# Altium integrated library TI Data Converters Analog to Digital Converter.IntLib: 2198 symbols (part 56 of 164)
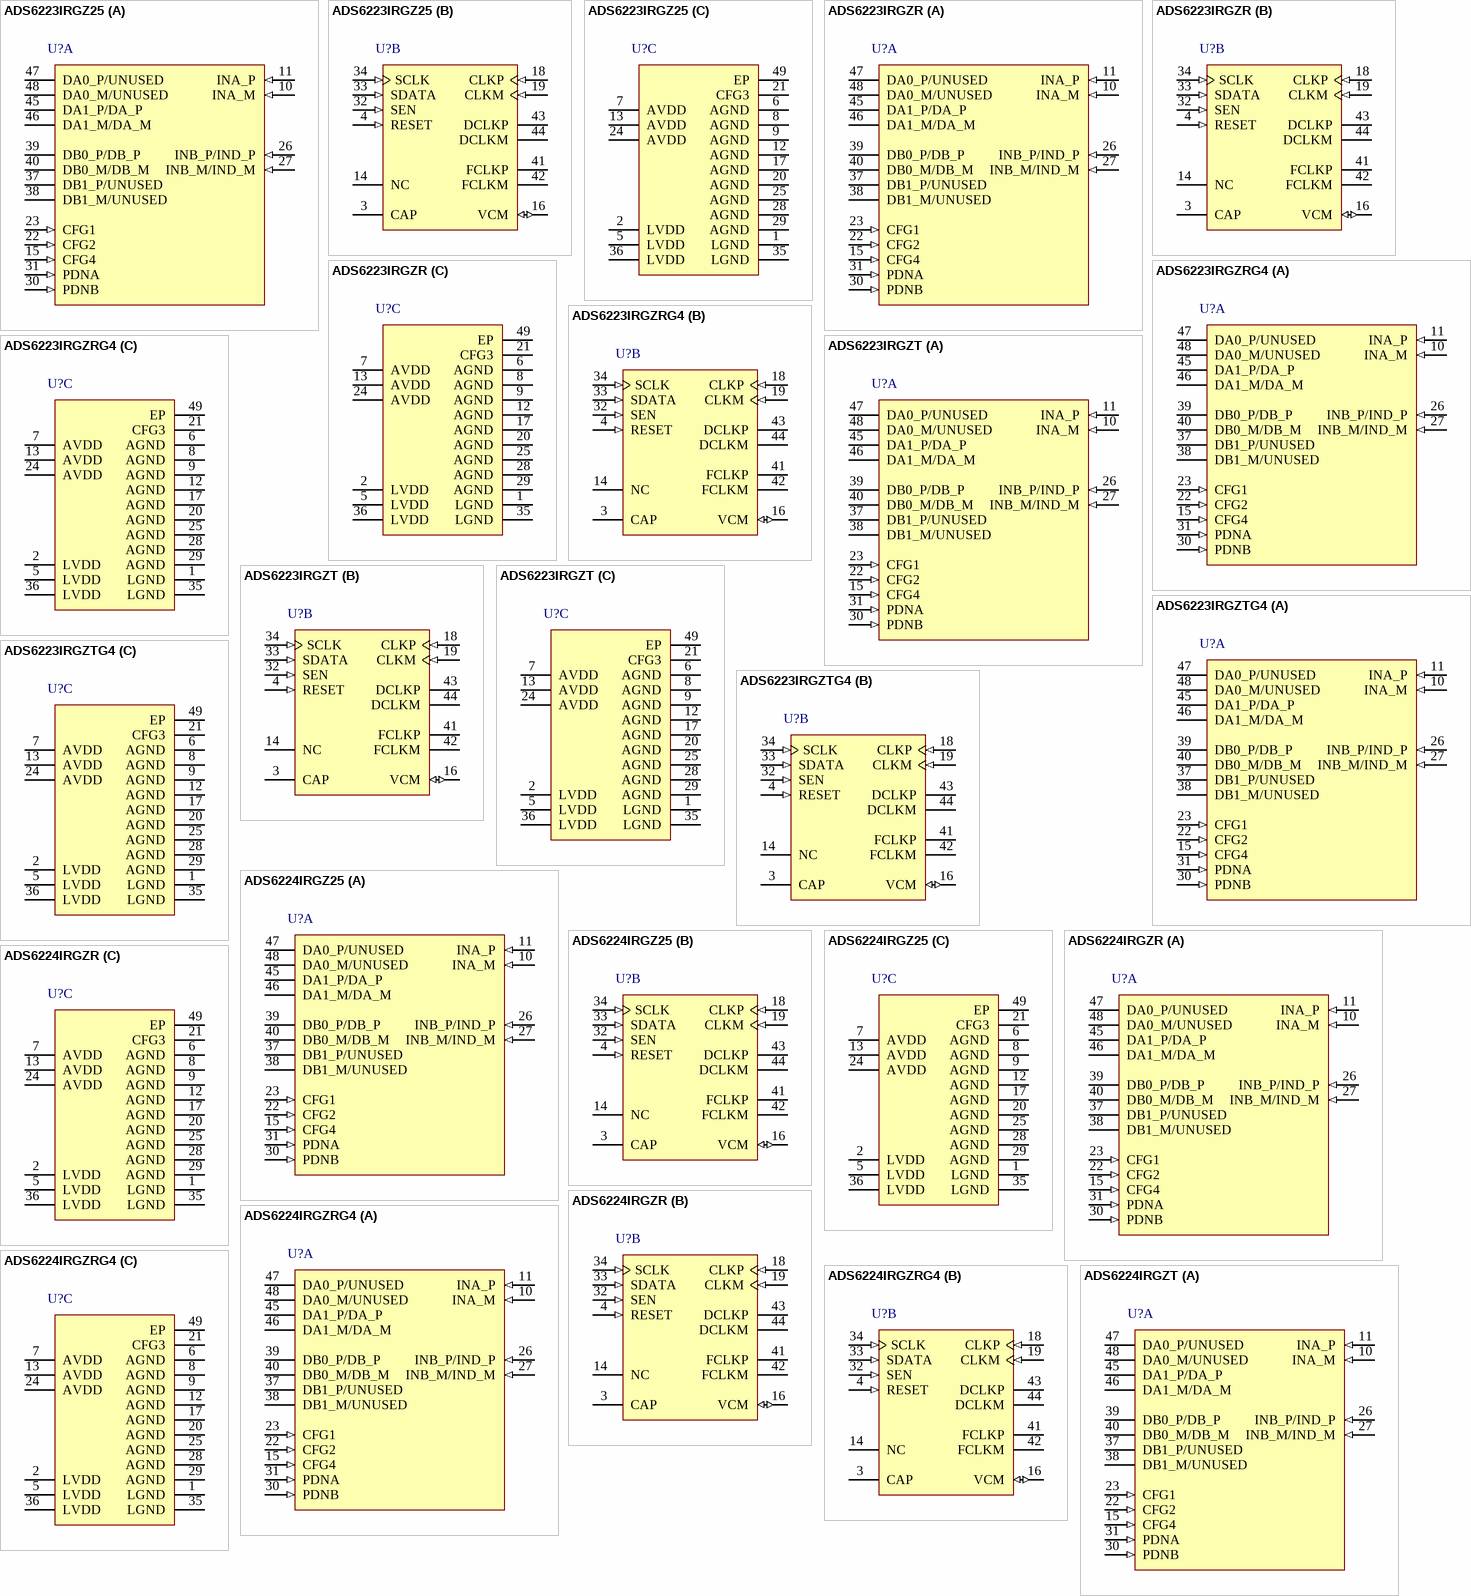
[diagram p181: symbols ADS6223IRGZ25 to ADS6224IRGZT]

## ADS6223IRGZTG4
designator U?
Dual 12-Bit 80 MSPS ADC with Serialized LVDS Output, -40 to 85 degC, 48-pin QFN (RGZ48), Green (RoHS & no Sb/Br); Manufacturer: Texas Instruments; PartNumber: ADS6223IRGZTG4; # Input Channels: 2; Analog Voltage AV/DD(Max)(V): 3.6; Analog Voltage AV/DD(Min)(V): 3; Architecture: Pipeline; ENOB(Bits): 11.5; Interface: Parallel LVDS, Serial SPI Interface; Resolution(Bits): 12; Sample Rate (max)(SPS): 80M; SFDR(dB): 87; SINAD(dB): 70.9; SNR(dB): 71.1; SubFamily: High Speed ADC (>10MSPS); DatasheetVersion: SLAS543A; PackageVersion: 4204101/F, 06/2011; PackageReference: RGZ48-5150X5150TP; PackageDescription: 48-Pin Plastic Flat Pack, Body 7 x 7 mm, Pitch 0.5 mm; Supplier 1: Digi-Key; Supplier Part Number 1: ADS5204IPFBRG4-ND; Digital Supply(Max)(V): 3.6; Digital Supply(Min)(V): 3; Eco-Plan: Green (RoHS & no Sb/Br); INL(Max)(+/-LSB): 2; Mounting Technology: Surface Mount; Code_JEDEC: MO-220; ComponentLink1Description: Manufacturer URL; ComponentLink1URL: http://www.ti.com/; ComponentLink2Description: Datasheet; ComponentLink2URL: http://www.ti.com/general/docs/lit/getliterature.tsp?genericPartNumber=ADS6223&fileType=pdf; ComponentLink3Description: Package Specification; ComponentLink3URL: http://www.ti.com/lit/ml/mpqf123e/mpqf123e.pdf
footprint TI-RGZ48-5150X5150TP_V (QFN, 48-Leads, Body 7x7mm, Pitch 0.5mm, Thermal Pad 5.15x5.15mm, TI Recommended)
part A pins: 10 INA_M (in) "Differential input signal pair, channel A. If unused, the pins should be tied to VCM. Do not float.", 11 INA_P (in) "Differential input signal pair, channel A. If unused, the pins should be tied to VCM. Do not float.", 15 CFG4 (in) "Parallel input pin. It controls data format and MSB or LSB first modes. See Table 12 for description", 22 CFG2 (in) "Parallel input pin. It controls 12x or 14x serialization and SDR bit clock capture edge. See Table 10 for description. For 12x serialization with DDR bit clock, tie to ground or AVDD.", 23 CFG1 (in) "Parallel input pin. It controls 1-wire or 2-wire interface and DDR or SDR bit clock selection. See Table 9 for description. Tie to AVDD for 2-wire interface with DDR bit clock.", 26 INB_P/IND_P (in), 27 INB_M/IND_M (in), 30 PDNB (in) "Channel B ADC power down control pin.", 31 PDNA (in) "Channel A ADC power down control pin.", 37 DB1_P/UNUSED (hiz), 38 DB1_M/UNUSED (hiz), 39 DB0_P/DB_P (hiz), 40 DB0_M/DB_M (hiz), 45 DA1_P/DA_P (hiz), 46 DA1_M/DA_M (hiz), 47 DA0_P/UNUSED (hiz), 48 DA0_M/UNUSED (hiz)
part B pins: 3 CAP "Connect 2-nF capacitor from pin to ground", 4 RESET (in) "Serial interface reset input. When using the serial interface mode, the user MUST initialize internal registers through hardware RESET by applying a high-going pulse on this pin or by using software reset option.Refer to the (See Datasheet)", 14 NC "Do Not Connect", 16 VCM (io) "Internal reference mode - common-mode voltage output External reference mode - reference input. The voltage forced on this pin sets the internal reference.", 18 CLKP (in) "Differential input clock pair", 19 CLKM (in) "Differential input clock pair", 32 SEN (in) "This pin functions as serial interface enable input when RESET is low. When RESET is high, it controls coarse gain and internal/external reference modes. See Table 6 for description. This pin has an internal pull-up resistor.", 33 SDATA (in) "This pin functions as serial interface data input when RESET is low. When RESET is high, it controls DESKEW, SYNC and global POWER DOWN modes (along with SCLK). See Table 5 for description. This pin has an internal pull-down (See Datasheet)", 34 SCLK (in) "This pin functions as serial interface clock input when RESET is low. When RESET is high, it controls DESKEW, SYNC and global POWER DOWN modes (along with SDATA). See Table 5 for description. This pin has an internal (See Datasheet)", 41 FCLKP (hiz) "Differential frame clock output pair", 42 FCLKM (hiz) "Differential frame clock output pair", 43 DCLKP (hiz) "Differential bit clock output pair", 44 DCLKM (hiz) "Differential bit clock output pair"
part C pins: 1 LGND (power) "Digital ground", 2 LVDD (power) "Digital power supply", 5 LVDD (power) "Digital power supply", 6 AGND (power) "Analog ground", 7 AVDD (power) "Analog power supply", 8 AGND (power) "Analog ground", 9 AGND (power) "Analog ground", 12 AGND (power) "Analog ground", 13 AVDD (power) "Analog power supply", 17 AGND (power) "Analog ground", 20 AGND (power) "Analog ground", 21 CFG3 (power) "RESERVED pin - TIE to ground.", 24 AVDD (power) "Analog power supply", 25 AGND (power) "Analog ground", 28 AGND (power) "Analog ground", 29 AGND (power) "Analog ground", 35 LGND (power) "Digital ground", 36 LVDD (power) "Digital power supply", 49 EP (power) "Connect to ground plane using multiple vias. Refer to Board Design Considerations in application section"

## ADS6224IRGZ25
designator U?
Dual 12-Bit 105 MSPS ADC with Serialized LVDS Output, -40 to 85 degC, 48-pin QFN (RGZ48), Green (RoHS & no Sb/Br); Manufacturer: Texas Instruments; PartNumber: ADS6224IRGZ25; # Input Channels: 2; Analog Voltage AV/DD(Max)(V): 3.6; Analog Voltage AV/DD(Min)(V): 3; Architecture: Pipeline; ENOB(Bits): 11.4; INL(Max)(+/-LSB): 2.2; Interface: Parallel LVDS, Serial SPI Interface; Resolution(Bits): 12; Sample Rate (max)(SPS): 105M; SFDR(dB): 80; SINAD(dB): 69.8; SNR(dB): 70.8; SubFamily: High Speed ADC (>10MSPS); DatasheetVersion: SLAS543A; PackageVersion: 4204101/F, 06/2011; PackageReference: RGZ48-5150X5150TP; PackageDescription: 48-Pin Plastic Flat Pack, Body 7 x 7 mm, Pitch 0.5 mm; Supplier 1: Digi-Key; Supplier Part Number 1: 296-13446-ND; Digital Supply(Max)(V): 3.6; Digital Supply(Min)(V): 3; Eco-Plan: Green (RoHS & no Sb/Br); Mounting Technology: Surface Mount; Code_JEDEC: MO-220; ComponentLink1Description: Manufacturer URL; ComponentLink1URL: http://www.ti.com/; ComponentLink2Description: Datasheet; ComponentLink2URL: http://www.ti.com/general/docs/lit/getliterature.tsp?genericPartNumber=ADS6224&fileType=pdf; ComponentLink3Description: Package Specification; ComponentLink3URL: http://www.ti.com/lit/ml/mpqf123e/mpqf123e.pdf
footprint TI-RGZ48-5150X5150TP_V (QFN, 48-Leads, Body 7x7mm, Pitch 0.5mm, Thermal Pad 5.15x5.15mm, TI Recommended)
part A pins: 10 INA_M (in) "Differential input signal pair, channel A. If unused, the pins should be tied to VCM. Do not float.", 11 INA_P (in) "Differential input signal pair, channel A. If unused, the pins should be tied to VCM. Do not float.", 15 CFG4 (in) "Parallel input pin. It controls data format and MSB or LSB first modes. See Table 12 for description", 22 CFG2 (in) "Parallel input pin. It controls 12x or 14x serialization and SDR bit clock capture edge. See Table 10 for description. For 12x serialization with DDR bit clock, tie to ground or AVDD.", 23 CFG1 (in) "Parallel input pin. It controls 1-wire or 2-wire interface and DDR or SDR bit clock selection. See Table 9 for description. Tie to AVDD for 2-wire interface with DDR bit clock.", 26 INB_P/IND_P (in), 27 INB_M/IND_M (in), 30 PDNB (in) "Channel B ADC power down control pin.", 31 PDNA (in) "Channel A ADC power down control pin.", 37 DB1_P/UNUSED (hiz), 38 DB1_M/UNUSED (hiz), 39 DB0_P/DB_P (hiz), 40 DB0_M/DB_M (hiz), 45 DA1_P/DA_P (hiz), 46 DA1_M/DA_M (hiz), 47 DA0_P/UNUSED (hiz), 48 DA0_M/UNUSED (hiz)
part B pins: 3 CAP "Connect 2-nF capacitor from pin to ground", 4 RESET (in) "Serial interface reset input. When using the serial interface mode, the user MUST initialize internal registers through hardware RESET by applying a high-going pulse on this pin or by using software reset option.Refer to the (See Datasheet)", 14 NC "Do Not Connect", 16 VCM (io) "Internal reference mode - common-mode voltage output External reference mode - reference input. The voltage forced on this pin sets the internal reference.", 18 CLKP (in) "Differential input clock pair", 19 CLKM (in) "Differential input clock pair", 32 SEN (in) "This pin functions as serial interface enable input when RESET is low. When RESET is high, it controls coarse gain and internal/external reference modes. See Table 6 for description. This pin has an internal pull-up resistor.", 33 SDATA (in) "This pin functions as serial interface data input when RESET is low. When RESET is high, it controls DESKEW, SYNC and global POWER DOWN modes (along with SCLK). See Table 5 for description. This pin has an internal pull-down (See Datasheet)", 34 SCLK (in) "This pin functions as serial interface clock input when RESET is low. When RESET is high, it controls DESKEW, SYNC and global POWER DOWN modes (along with SDATA). See Table 5 for description. This pin has an internal (See Datasheet)", 41 FCLKP (hiz) "Differential frame clock output pair", 42 FCLKM (hiz) "Differential frame clock output pair", 43 DCLKP (hiz) "Differential bit clock output pair", 44 DCLKM (hiz) "Differential bit clock output pair"
part C pins: 1 LGND (power) "Digital ground", 2 LVDD (power) "Digital power supply", 5 LVDD (power) "Digital power supply", 6 AGND (power) "Analog ground", 7 AVDD (power) "Analog power supply", 8 AGND (power) "Analog ground", 9 AGND (power) "Analog ground", 12 AGND (power) "Analog ground", 13 AVDD (power) "Analog power supply", 17 AGND (power) "Analog ground", 20 AGND (power) "Analog ground", 21 CFG3 (power) "RESERVED pin - TIE to ground.", 24 AVDD (power) "Analog power supply", 25 AGND (power) "Analog ground", 28 AGND (power) "Analog ground", 29 AGND (power) "Analog ground", 35 LGND (power) "Digital ground", 36 LVDD (power) "Digital power supply", 49 EP (power) "Connect to ground plane using multiple vias. Refer to Board Design Considerations in application section"

## ADS6224IRGZR
designator U?
Dual 12-Bit 105 MSPS ADC with Serialized LVDS Output, -40 to 85 degC, 48-pin QFN (RGZ48), Green (RoHS & no Sb/Br); Manufacturer: Texas Instruments; PartNumber: ADS6224IRGZR; # Input Channels: 2; Analog Voltage AV/DD(Max)(V): 3.6; Analog Voltage AV/DD(Min)(V): 3; Architecture: Pipeline; ENOB(Bits): 11.4; INL(Max)(+/-LSB): 2.2; Interface: Parallel LVDS, Serial SPI Interface; Resolution(Bits): 12; Sample Rate (max)(SPS): 105M; SFDR(dB): 80; SINAD(dB): 69.8; SNR(dB): 70.8; SubFamily: High Speed ADC (>10MSPS); DatasheetVersion: SLAS543A; PackageVersion: 4204101/F, 06/2011; PackageReference: RGZ48-5150X5150TP; PackageDescription: 48-Pin Plastic Flat Pack, Body 7 x 7 mm, Pitch 0.5 mm; Supplier 1: Digi-Key; Supplier Part Number 1: ADS5203IPFBG4-ND; Digital Supply(Max)(V): 3.6; Digital Supply(Min)(V): 3; Eco-Plan: Green (RoHS & no Sb/Br); Mounting Technology: Surface Mount; Code_JEDEC: MO-220; ComponentLink1Description: Manufacturer URL; ComponentLink1URL: http://www.ti.com/; ComponentLink2Description: Datasheet; ComponentLink2URL: http://www.ti.com/general/docs/lit/getliterature.tsp?genericPartNumber=ADS6224&fileType=pdf; ComponentLink3Description: Package Specification; ComponentLink3URL: http://www.ti.com/lit/ml/mpqf123e/mpqf123e.pdf
footprint TI-RGZ48-5150X5150TP_V (QFN, 48-Leads, Body 7x7mm, Pitch 0.5mm, Thermal Pad 5.15x5.15mm, TI Recommended)
part A pins: 10 INA_M (in) "Differential input signal pair, channel A. If unused, the pins should be tied to VCM. Do not float.", 11 INA_P (in) "Differential input signal pair, channel A. If unused, the pins should be tied to VCM. Do not float.", 15 CFG4 (in) "Parallel input pin. It controls data format and MSB or LSB first modes. See Table 12 for description", 22 CFG2 (in) "Parallel input pin. It controls 12x or 14x serialization and SDR bit clock capture edge. See Table 10 for description. For 12x serialization with DDR bit clock, tie to ground or AVDD.", 23 CFG1 (in) "Parallel input pin. It controls 1-wire or 2-wire interface and DDR or SDR bit clock selection. See Table 9 for description. Tie to AVDD for 2-wire interface with DDR bit clock.", 26 INB_P/IND_P (in), 27 INB_M/IND_M (in), 30 PDNB (in) "Channel B ADC power down control pin.", 31 PDNA (in) "Channel A ADC power down control pin.", 37 DB1_P/UNUSED (hiz), 38 DB1_M/UNUSED (hiz), 39 DB0_P/DB_P (hiz), 40 DB0_M/DB_M (hiz), 45 DA1_P/DA_P (hiz), 46 DA1_M/DA_M (hiz), 47 DA0_P/UNUSED (hiz), 48 DA0_M/UNUSED (hiz)
part B pins: 3 CAP "Connect 2-nF capacitor from pin to ground", 4 RESET (in) "Serial interface reset input. When using the serial interface mode, the user MUST initialize internal registers through hardware RESET by applying a high-going pulse on this pin or by using software reset option.Refer to the (See Datasheet)", 14 NC "Do Not Connect", 16 VCM (io) "Internal reference mode - common-mode voltage output External reference mode - reference input. The voltage forced on this pin sets the internal reference.", 18 CLKP (in) "Differential input clock pair", 19 CLKM (in) "Differential input clock pair", 32 SEN (in) "This pin functions as serial interface enable input when RESET is low. When RESET is high, it controls coarse gain and internal/external reference modes. See Table 6 for description. This pin has an internal pull-up resistor.", 33 SDATA (in) "This pin functions as serial interface data input when RESET is low. When RESET is high, it controls DESKEW, SYNC and global POWER DOWN modes (along with SCLK). See Table 5 for description. This pin has an internal pull-down (See Datasheet)", 34 SCLK (in) "This pin functions as serial interface clock input when RESET is low. When RESET is high, it controls DESKEW, SYNC and global POWER DOWN modes (along with SDATA). See Table 5 for description. This pin has an internal (See Datasheet)", 41 FCLKP (hiz) "Differential frame clock output pair", 42 FCLKM (hiz) "Differential frame clock output pair", 43 DCLKP (hiz) "Differential bit clock output pair", 44 DCLKM (hiz) "Differential bit clock output pair"
part C pins: 1 LGND (power) "Digital ground", 2 LVDD (power) "Digital power supply", 5 LVDD (power) "Digital power supply", 6 AGND (power) "Analog ground", 7 AVDD (power) "Analog power supply", 8 AGND (power) "Analog ground", 9 AGND (power) "Analog ground", 12 AGND (power) "Analog ground", 13 AVDD (power) "Analog power supply", 17 AGND (power) "Analog ground", 20 AGND (power) "Analog ground", 21 CFG3 (power) "RESERVED pin - TIE to ground.", 24 AVDD (power) "Analog power supply", 25 AGND (power) "Analog ground", 28 AGND (power) "Analog ground", 29 AGND (power) "Analog ground", 35 LGND (power) "Digital ground", 36 LVDD (power) "Digital power supply", 49 EP (power) "Connect to ground plane using multiple vias. Refer to Board Design Considerations in application section"

## ADS6224IRGZRG4
designator U?
Dual 12-Bit 105 MSPS ADC with Serialized LVDS Output, -40 to 85 degC, 48-pin QFN (RGZ48), Green (RoHS & no Sb/Br); Manufacturer: Texas Instruments; PartNumber: ADS6224IRGZRG4; # Input Channels: 2; Analog Voltage AV/DD(Max)(V): 3.6; Analog Voltage AV/DD(Min)(V): 3; Architecture: Pipeline; ENOB(Bits): 11.4; INL(Max)(+/-LSB): 2.2; Interface: Parallel LVDS, Serial SPI Interface; Resolution(Bits): 12; Sample Rate (max)(SPS): 105M; SFDR(dB): 80; SINAD(dB): 69.8; SNR(dB): 70.8; SubFamily: High Speed ADC (>10MSPS); DatasheetVersion: SLAS543A; PackageVersion: 4204101/F, 06/2011; PackageReference: RGZ48-5150X5150TP; PackageDescription: 48-Pin Plastic Flat Pack, Body 7 x 7 mm, Pitch 0.5 mm; Supplier 1: Digi-Key; Supplier Part Number 1: ADS5203IPFBR-ND; Digital Supply(Max)(V): 3.6; Digital Supply(Min)(V): 3; Eco-Plan: Green (RoHS & no Sb/Br); Mounting Technology: Surface Mount; Code_JEDEC: MO-220; ComponentLink1Description: Manufacturer URL; ComponentLink1URL: http://www.ti.com/; ComponentLink2Description: Datasheet; ComponentLink2URL: http://www.ti.com/general/docs/lit/getliterature.tsp?genericPartNumber=ADS6224&fileType=pdf; ComponentLink3Description: Package Specification; ComponentLink3URL: http://www.ti.com/lit/ml/mpqf123e/mpqf123e.pdf
footprint TI-RGZ48-5150X5150TP_V (QFN, 48-Leads, Body 7x7mm, Pitch 0.5mm, Thermal Pad 5.15x5.15mm, TI Recommended)
part A pins: 10 INA_M (in) "Differential input signal pair, channel A. If unused, the pins should be tied to VCM. Do not float.", 11 INA_P (in) "Differential input signal pair, channel A. If unused, the pins should be tied to VCM. Do not float.", 15 CFG4 (in) "Parallel input pin. It controls data format and MSB or LSB first modes. See Table 12 for description", 22 CFG2 (in) "Parallel input pin. It controls 12x or 14x serialization and SDR bit clock capture edge. See Table 10 for description. For 12x serialization with DDR bit clock, tie to ground or AVDD.", 23 CFG1 (in) "Parallel input pin. It controls 1-wire or 2-wire interface and DDR or SDR bit clock selection. See Table 9 for description. Tie to AVDD for 2-wire interface with DDR bit clock.", 26 INB_P/IND_P (in), 27 INB_M/IND_M (in), 30 PDNB (in) "Channel B ADC power down control pin.", 31 PDNA (in) "Channel A ADC power down control pin.", 37 DB1_P/UNUSED (hiz), 38 DB1_M/UNUSED (hiz), 39 DB0_P/DB_P (hiz), 40 DB0_M/DB_M (hiz), 45 DA1_P/DA_P (hiz), 46 DA1_M/DA_M (hiz), 47 DA0_P/UNUSED (hiz), 48 DA0_M/UNUSED (hiz)
part B pins: 3 CAP "Connect 2-nF capacitor from pin to ground", 4 RESET (in) "Serial interface reset input. When using the serial interface mode, the user MUST initialize internal registers through hardware RESET by applying a high-going pulse on this pin or by using software reset option.Refer to the (See Datasheet)", 14 NC "Do Not Connect", 16 VCM (io) "Internal reference mode - common-mode voltage output External reference mode - reference input. The voltage forced on this pin sets the internal reference.", 18 CLKP (in) "Differential input clock pair", 19 CLKM (in) "Differential input clock pair", 32 SEN (in) "This pin functions as serial interface enable input when RESET is low. When RESET is high, it controls coarse gain and internal/external reference modes. See Table 6 for description. This pin has an internal pull-up resistor.", 33 SDATA (in) "This pin functions as serial interface data input when RESET is low. When RESET is high, it controls DESKEW, SYNC and global POWER DOWN modes (along with SCLK). See Table 5 for description. This pin has an internal pull-down (See Datasheet)", 34 SCLK (in) "This pin functions as serial interface clock input when RESET is low. When RESET is high, it controls DESKEW, SYNC and global POWER DOWN modes (along with SDATA). See Table 5 for description. This pin has an internal (See Datasheet)", 41 FCLKP (hiz) "Differential frame clock output pair", 42 FCLKM (hiz) "Differential frame clock output pair", 43 DCLKP (hiz) "Differential bit clock output pair", 44 DCLKM (hiz) "Differential bit clock output pair"
part C pins: 1 LGND (power) "Digital ground", 2 LVDD (power) "Digital power supply", 5 LVDD (power) "Digital power supply", 6 AGND (power) "Analog ground", 7 AVDD (power) "Analog power supply", 8 AGND (power) "Analog ground", 9 AGND (power) "Analog ground", 12 AGND (power) "Analog ground", 13 AVDD (power) "Analog power supply", 17 AGND (power) "Analog ground", 20 AGND (power) "Analog ground", 21 CFG3 (power) "RESERVED pin - TIE to ground.", 24 AVDD (power) "Analog power supply", 25 AGND (power) "Analog ground", 28 AGND (power) "Analog ground", 29 AGND (power) "Analog ground", 35 LGND (power) "Digital ground", 36 LVDD (power) "Digital power supply", 49 EP (power) "Connect to ground plane using multiple vias. Refer to Board Design Considerations in application section"

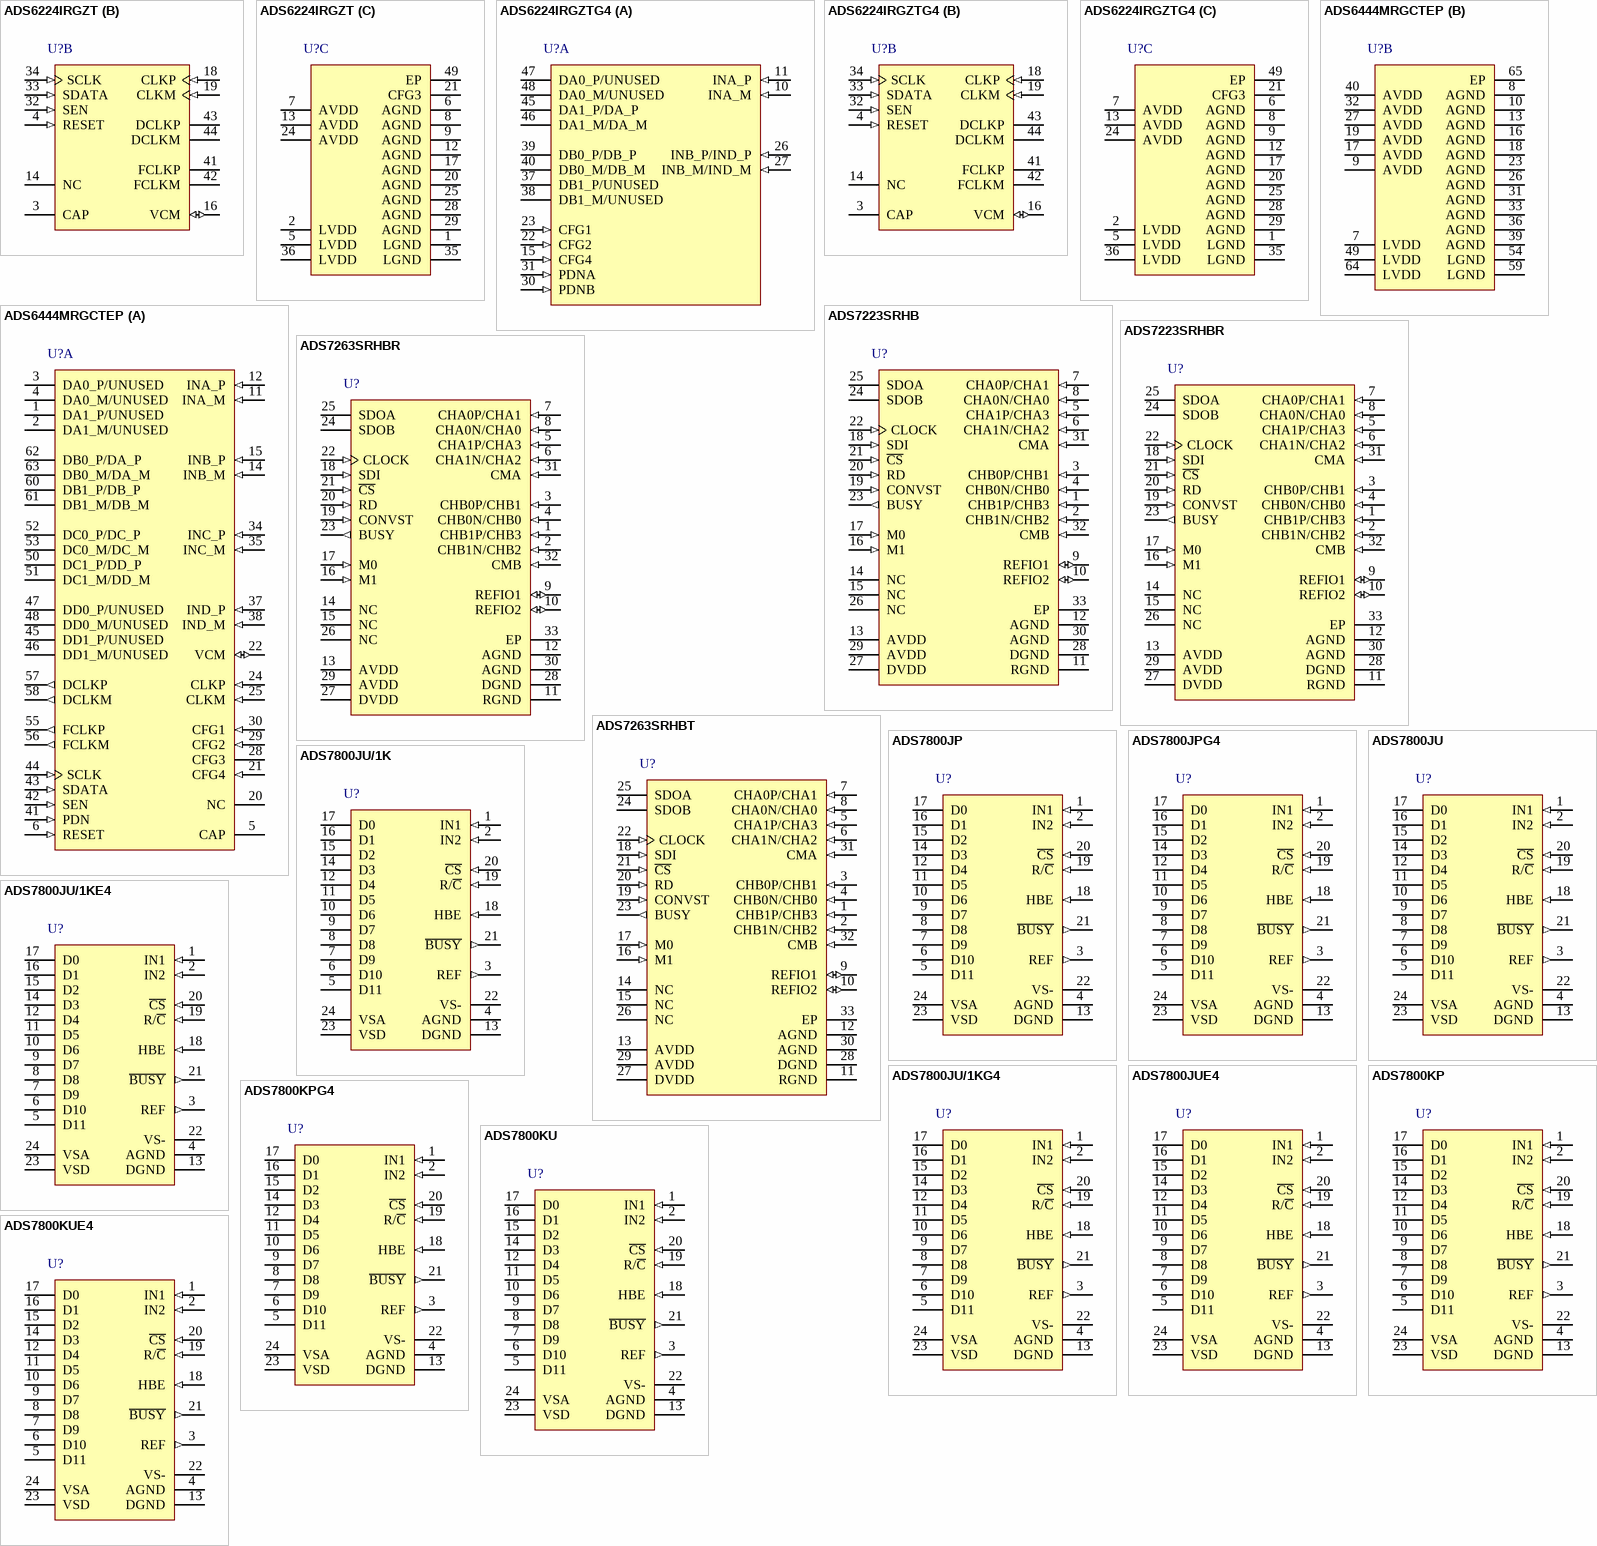
[diagram p57: symbols ADS6224IRGZT to ADS7800KUE4]

## ADS6224IRGZT
designator U?
Dual 12-Bit 105 MSPS ADC with Serialized LVDS Output, -40 to 85 degC, 48-pin QFN (RGZ48), Green (RoHS & no Sb/Br); Manufacturer: Texas Instruments; PartNumber: ADS6224IRGZT; # Input Channels: 2; Analog Voltage AV/DD(Max)(V): 3.6; Analog Voltage AV/DD(Min)(V): 3; Architecture: Pipeline; ENOB(Bits): 11.4; INL(Max)(+/-LSB): 2.2; Interface: Parallel LVDS, Serial SPI Interface; Resolution(Bits): 12; Sample Rate (max)(SPS): 105M; SFDR(dB): 80; SINAD(dB): 69.8; SNR(dB): 70.8; SubFamily: High Speed ADC (>10MSPS); DatasheetVersion: SLAS543A; PackageVersion: 4204101/F, 06/2011; PackageReference: RGZ48-5150X5150TP; PackageDescription: 48-Pin Plastic Flat Pack, Body 7 x 7 mm, Pitch 0.5 mm; Supplier 1: Digi-Key; Supplier Part Number 1: ADS5203IPFBRG4-ND; Digital Supply(Max)(V): 3.6; Digital Supply(Min)(V): 3; Eco-Plan: Green (RoHS & no Sb/Br); Mounting Technology: Surface Mount; Code_JEDEC: MO-220; ComponentLink1Description: Manufacturer URL; ComponentLink1URL: http://www.ti.com/; ComponentLink2Description: Datasheet; ComponentLink2URL: http://www.ti.com/general/docs/lit/getliterature.tsp?genericPartNumber=ADS6224&fileType=pdf; ComponentLink3Description: Package Specification; ComponentLink3URL: http://www.ti.com/lit/ml/mpqf123e/mpqf123e.pdf
footprint TI-RGZ48-5150X5150TP_V (QFN, 48-Leads, Body 7x7mm, Pitch 0.5mm, Thermal Pad 5.15x5.15mm, TI Recommended)
part A pins: 10 INA_M (in) "Differential input signal pair, channel A. If unused, the pins should be tied to VCM. Do not float.", 11 INA_P (in) "Differential input signal pair, channel A. If unused, the pins should be tied to VCM. Do not float.", 15 CFG4 (in) "Parallel input pin. It controls data format and MSB or LSB first modes. See Table 12 for description", 22 CFG2 (in) "Parallel input pin. It controls 12x or 14x serialization and SDR bit clock capture edge. See Table 10 for description. For 12x serialization with DDR bit clock, tie to ground or AVDD.", 23 CFG1 (in) "Parallel input pin. It controls 1-wire or 2-wire interface and DDR or SDR bit clock selection. See Table 9 for description. Tie to AVDD for 2-wire interface with DDR bit clock.", 26 INB_P/IND_P (in), 27 INB_M/IND_M (in), 30 PDNB (in) "Channel B ADC power down control pin.", 31 PDNA (in) "Channel A ADC power down control pin.", 37 DB1_P/UNUSED (hiz), 38 DB1_M/UNUSED (hiz), 39 DB0_P/DB_P (hiz), 40 DB0_M/DB_M (hiz), 45 DA1_P/DA_P (hiz), 46 DA1_M/DA_M (hiz), 47 DA0_P/UNUSED (hiz), 48 DA0_M/UNUSED (hiz)
part B pins: 3 CAP "Connect 2-nF capacitor from pin to ground", 4 RESET (in) "Serial interface reset input. When using the serial interface mode, the user MUST initialize internal registers through hardware RESET by applying a high-going pulse on this pin or by using software reset option.Refer to the (See Datasheet)", 14 NC "Do Not Connect", 16 VCM (io) "Internal reference mode - common-mode voltage output External reference mode - reference input. The voltage forced on this pin sets the internal reference.", 18 CLKP (in) "Differential input clock pair", 19 CLKM (in) "Differential input clock pair", 32 SEN (in) "This pin functions as serial interface enable input when RESET is low. When RESET is high, it controls coarse gain and internal/external reference modes. See Table 6 for description. This pin has an internal pull-up resistor.", 33 SDATA (in) "This pin functions as serial interface data input when RESET is low. When RESET is high, it controls DESKEW, SYNC and global POWER DOWN modes (along with SCLK). See Table 5 for description. This pin has an internal pull-down (See Datasheet)", 34 SCLK (in) "This pin functions as serial interface clock input when RESET is low. When RESET is high, it controls DESKEW, SYNC and global POWER DOWN modes (along with SDATA). See Table 5 for description. This pin has an internal (See Datasheet)", 41 FCLKP (hiz) "Differential frame clock output pair", 42 FCLKM (hiz) "Differential frame clock output pair", 43 DCLKP (hiz) "Differential bit clock output pair", 44 DCLKM (hiz) "Differential bit clock output pair"
part C pins: 1 LGND (power) "Digital ground", 2 LVDD (power) "Digital power supply", 5 LVDD (power) "Digital power supply", 6 AGND (power) "Analog ground", 7 AVDD (power) "Analog power supply", 8 AGND (power) "Analog ground", 9 AGND (power) "Analog ground", 12 AGND (power) "Analog ground", 13 AVDD (power) "Analog power supply", 17 AGND (power) "Analog ground", 20 AGND (power) "Analog ground", 21 CFG3 (power) "RESERVED pin - TIE to ground.", 24 AVDD (power) "Analog power supply", 25 AGND (power) "Analog ground", 28 AGND (power) "Analog ground", 29 AGND (power) "Analog ground", 35 LGND (power) "Digital ground", 36 LVDD (power) "Digital power supply", 49 EP (power) "Connect to ground plane using multiple vias. Refer to Board Design Considerations in application section"

## ADS6224IRGZTG4
designator U?
Dual 12-Bit 105 MSPS ADC with Serialized LVDS Output, -40 to 85 degC, 48-pin QFN (RGZ48), Green (RoHS & no Sb/Br); Manufacturer: Texas Instruments; PartNumber: ADS6224IRGZTG4; # Input Channels: 2; Analog Voltage AV/DD(Max)(V): 3.6; Analog Voltage AV/DD(Min)(V): 3; Architecture: Pipeline; ENOB(Bits): 11.4; INL(Max)(+/-LSB): 2.2; Interface: Parallel LVDS, Serial SPI Interface; Resolution(Bits): 12; Sample Rate (max)(SPS): 105M; SFDR(dB): 80; SINAD(dB): 69.8; SNR(dB): 70.8; SubFamily: High Speed ADC (>10MSPS); DatasheetVersion: SLAS543A; PackageVersion: 4204101/F, 06/2011; PackageReference: RGZ48-5150X5150TP; PackageDescription: 48-Pin Plastic Flat Pack, Body 7 x 7 mm, Pitch 0.5 mm; Supplier 1: Digi-Key; Supplier Part Number 1: 296-13448-ND; Digital Supply(Max)(V): 3.6; Digital Supply(Min)(V): 3; Eco-Plan: Green (RoHS & no Sb/Br); Mounting Technology: Surface Mount; Code_JEDEC: MO-220; ComponentLink1Description: Manufacturer URL; ComponentLink1URL: http://www.ti.com/; ComponentLink2Description: Datasheet; ComponentLink2URL: http://www.ti.com/general/docs/lit/getliterature.tsp?genericPartNumber=ADS6224&fileType=pdf; ComponentLink3Description: Package Specification; ComponentLink3URL: http://www.ti.com/lit/ml/mpqf123e/mpqf123e.pdf
footprint TI-RGZ48-5150X5150TP_V (QFN, 48-Leads, Body 7x7mm, Pitch 0.5mm, Thermal Pad 5.15x5.15mm, TI Recommended)
part A pins: 10 INA_M (in) "Differential input signal pair, channel A. If unused, the pins should be tied to VCM. Do not float.", 11 INA_P (in) "Differential input signal pair, channel A. If unused, the pins should be tied to VCM. Do not float.", 15 CFG4 (in) "Parallel input pin. It controls data format and MSB or LSB first modes. See Table 12 for description", 22 CFG2 (in) "Parallel input pin. It controls 12x or 14x serialization and SDR bit clock capture edge. See Table 10 for description. For 12x serialization with DDR bit clock, tie to ground or AVDD.", 23 CFG1 (in) "Parallel input pin. It controls 1-wire or 2-wire interface and DDR or SDR bit clock selection. See Table 9 for description. Tie to AVDD for 2-wire interface with DDR bit clock.", 26 INB_P/IND_P (in), 27 INB_M/IND_M (in), 30 PDNB (in) "Channel B ADC power down control pin.", 31 PDNA (in) "Channel A ADC power down control pin.", 37 DB1_P/UNUSED (hiz), 38 DB1_M/UNUSED (hiz), 39 DB0_P/DB_P (hiz), 40 DB0_M/DB_M (hiz), 45 DA1_P/DA_P (hiz), 46 DA1_M/DA_M (hiz), 47 DA0_P/UNUSED (hiz), 48 DA0_M/UNUSED (hiz)
part B pins: 3 CAP "Connect 2-nF capacitor from pin to ground", 4 RESET (in) "Serial interface reset input. When using the serial interface mode, the user MUST initialize internal registers through hardware RESET by applying a high-going pulse on this pin or by using software reset option.Refer to the (See Datasheet)", 14 NC "Do Not Connect", 16 VCM (io) "Internal reference mode - common-mode voltage output External reference mode - reference input. The voltage forced on this pin sets the internal reference.", 18 CLKP (in) "Differential input clock pair", 19 CLKM (in) "Differential input clock pair", 32 SEN (in) "This pin functions as serial interface enable input when RESET is low. When RESET is high, it controls coarse gain and internal/external reference modes. See Table 6 for description. This pin has an internal pull-up resistor.", 33 SDATA (in) "This pin functions as serial interface data input when RESET is low. When RESET is high, it controls DESKEW, SYNC and global POWER DOWN modes (along with SCLK). See Table 5 for description. This pin has an internal pull-down (See Datasheet)", 34 SCLK (in) "This pin functions as serial interface clock input when RESET is low. When RESET is high, it controls DESKEW, SYNC and global POWER DOWN modes (along with SDATA). See Table 5 for description. This pin has an internal (See Datasheet)", 41 FCLKP (hiz) "Differential frame clock output pair", 42 FCLKM (hiz) "Differential frame clock output pair", 43 DCLKP (hiz) "Differential bit clock output pair", 44 DCLKM (hiz) "Differential bit clock output pair"
part C pins: 1 LGND (power) "Digital ground", 2 LVDD (power) "Digital power supply", 5 LVDD (power) "Digital power supply", 6 AGND (power) "Analog ground", 7 AVDD (power) "Analog power supply", 8 AGND (power) "Analog ground", 9 AGND (power) "Analog ground", 12 AGND (power) "Analog ground", 13 AVDD (power) "Analog power supply", 17 AGND (power) "Analog ground", 20 AGND (power) "Analog ground", 21 CFG3 (power) "RESERVED pin - TIE to ground.", 24 AVDD (power) "Analog power supply", 25 AGND (power) "Analog ground", 28 AGND (power) "Analog ground", 29 AGND (power) "Analog ground", 35 LGND (power) "Digital ground", 36 LVDD (power) "Digital power supply", 49 EP (power) "Connect to ground plane using multiple vias. Refer to Board Design Considerations in application section"

## ADS6444MRGCTEP
designator U?
Quad Channel, 14-Bit, 125 / 105 / 80 / 65 MSPS ADC with Serial LVDS Output, -55 to 125 DegC, 64-Pin QFN (RGC64); Manufacturer: Texas Instruments; PartNumber: ADS6444MRGCTEP; # Input Channels: 4; Analog Voltage AV/DD(Max)(V): 3.6; Analog Voltage AV/DD(Min)(V): 3; Architecture: Pipeline; Eco-Plan: Green (RoHS & no Sb/Br); ENOB(Bits): 11.7; INL(Max)(+/-LSB): 5; Interface: Parallel LVDS, Serial SPI Interface; Resolution(Bits): 14; Sample Rate(max)(SPS): 105M; SFDR(dB): 81; SINAD(dB): 72; SNR(dB): 73; SubFamily: High Speed ADC (>10MSPS); DatasheetVersion: SLAS573C; PackageVersion: 4204106/F, 11/2011; PackageReference: RGC64-7250X7250TP; PackageDescription: 64-Pin Plastic Quad Flatpack No-Lead, Body 9 x 9 mm, Pitch 0.5 mm; Supplier 1: Digi-Key; Supplier Part Number 1: ADS5410IPFBG4-ND; Digital Supply(Max)(V): 3.6; Digital Supply(Min)(V): 3; Mounting Technology: Surface Mount; ComponentLink1Description: Manufacturer URL; ComponentLink1URL: http://www.ti.com/; ComponentLink2Description: Datasheet; ComponentLink2URL: http://www.ti.com/lit/ds/symlink/ads6444-ep.pdf; ComponentLink3Description: Package Specification; ComponentLink3URL: http://www.ti.com/litv/pdf/mpqf125e
footprint TI-RGC64-7250X7250TP_V (QFN, 64-Leads, Body 9x9mm, Pitch 0.5mm, Thermal Pad 7.25x7.25mm, TI Recommended)
part A pins: 1 DA1_P/UNUSED (hiz), 2 DA1_M/UNUSED (hiz), 3 DA0_P/UNUSED (hiz), 4 DA0_M/UNUSED (hiz), 5 CAP "Connect 2 nF capacitance from pin to ground", 6 RESET (in) "Serial interface reset input. When using the serial interface mode, the user MUST initialize internal registers through hardware RESET by applying a high-going pulse on this pin or by using software reset option. Refer to (See Datasheet)", 11 INA_M (in) "Differential input signal pair, channel A. If unused, the pins should be tied to VCM. Do not float.", 12 INA_P (in) "Differential input signal pair, channel A. If unused, the pins should be tied to VCM. Do not float.", 14 INB_M (in) "Differential input signal pair, channel B. If unused, the pins should be tied to VCM. Do not float.", 15 INB_P (in) "Differential input signal pair, channel B. If unused, the pins should be tied to VCM. Do not float.", 20 NC "Do not connect", 21 CFG4 (in) "Parallel input pin. It controls data format and MSB or LSB first modes. Refer to Table 11 for description.", 22 VCM (io) "Internal reference mode - common-mode voltage output External reference mode - reference input. The voltage forced on this pin sets the internal reference.", 24 CLKP (in) "Differential input clock pair", 25 CLKM (in) "Differential input clock pair", 28 CFG3 "RESERVED pin - Tie to ground.", 29 CFG2 (in) "Parallel input pin. It controls 14x or 16x serialization and SDR bit clock capture edge. Refer to Table 9 for description. For 14x serialization with DDR bit clock, tie to ground or AVDD.", 30 CFG1 (in) "Parallel input pin. It controls 1-wire or 2-wire interface and DDR or SDR bit clock selection. Refer to Table 8 for description. Tie to ground for 1-wire interface with DDR bit clock.", 34 INC_P (in) "Differential input signal pair, channel C. If unused, the pins should be tied to VCM. Do not float.", 35 INC_M (in) "Differential input signal pair, channel C. If unused, the pins should be tied to VCM. Do not float.", 37 IND_P (in) "Differential input signal pair, channel D. If unused, the pins should be tied to VCM. Do not float.", 38 IND_M (in) "Differential input signal pair, channel D. If unused, the pins should be tied to VCM. Do not float.", 41 PDN (in) "Global power down control pin.", 42 SEN (in) "This pin functions as serial interface enable input when RESET is low. When RESET is high, it controls coarse gain and internal/external reference modes. Refer to Table 6 for description. This pin has an internal pull-up (See Datasheet)", 43 SDATA (in) "This pin functions as serial interface data input when RESET is low. When RESET is high, it controls DESKEW, SYNC and global POWER DOWN modes (along with SCLK). Refer to Table 5 for description. This pin has an internal (See Datasheet)", 44 SCLK (in) "This pin functions as serial interface clock input when RESET is low. When RESET is high, it controls DESKEW, SYNC and global POWER DOWN modes (along with SDATA). Refer to Table 5 for description. This pin has an internal (See Datasheet)", 45 DD1_P/UNUSED (hiz), 46 DD1_M/UNUSED (hiz), 47 DD0_P/UNUSED (hiz), 48 DD0_M/UNUSED (hiz), 50 DC1_P/DD_P (hiz), 51 DC1_M/DD_M (hiz), 52 DC0_P/DC_P (hiz), 53 DC0_M/DC_M (hiz), 55 FCLKP (out) "Differential frame clock output pair", 56 FCLKM (out) "Differential frame clock output pair", 57 DCLKP (out) "Differential bit clock output pair", 58 DCLKM (out) "Differential bit clock output pair", 60 DB1_P/DB_P (hiz), 61 DB1_M/DB_M (hiz), 62 DB0_P/DA_P (hiz), 63 DB0_M/DA_M (hiz)
part B pins: 7 LVDD (power) "Digital power supply", 8 AGND (power) "Analog ground", 9 AVDD (power) "Analog power supply", 10 AGND (power) "Analog ground", 13 AGND (power) "Analog ground", 16 AGND (power) "Analog ground", 17 AVDD (power) "Analog power supply", 18 AGND (power) "Analog ground", 19 AVDD (power) "Analog power supply", 23 AGND (power) "Analog ground", 26 AGND (power) "Analog ground", 27 AVDD (power) "Analog power supply", 31 AGND (power) "Analog ground", 32 AVDD (power) "Analog power supply", 33 AGND (power) "Analog ground", 36 AGND (power) "Analog ground", 39 AGND (power) "Analog ground", 40 AVDD (power) "Analog power supply", 49 LVDD (power) "Digital power supply", 54 LGND (power) "Digital ground", 59 LGND (power) "Digital ground", 64 LVDD (power) "Digital power supply", 65 EP (power) "Connect to ground plane using multiple vias. Refer to Board Design Considerations in the application section"

## ADS7223SRHB
designator U?
12-Bit 1 MSPS 4 x 2 / 2 x 2 Simultaneous Sampling SAR ADC, -40 to 125 degC, 32-pin QFN (RHB32), Green (RoHS & no Sb/Br); Manufacturer: Texas Instruments; PartNumber: ADS7223SRHB; # Input Channels: 4; Analog Voltage AV/DD(Max)(V): 5.5; Analog Voltage AV/DD(Min)(V): 2.7; Digital Supply(Min)(V): 2.3; INL(Max)(+/-LSB): 0.5; Interface: Serial; Resolution(Bits): 12; Sample Rate (max)(SPS): 1M; SFDR(dB): 86; SINAD(dB): 72; SNR(dB): 73; SubFamily: Precision ADC (<=10MSPS); DatasheetVersion: SBAS523B; PackageVersion: 4204326/D, 06/2011; PackageReference: RHB32-3450X3450TP; PackageDescription: 32-Pin Plastic Flat Pack, Body 5 x 5 mm, Pitch 0.5 mm; Supplier 1: Digi-Key; Supplier Part Number 1: ADS1217IPFBR-ND; Architecture: SAR; Digital Supply(Max)(V): 5.5; Eco-Plan: Green (RoHS & no Sb/Br); Mounting Technology: Surface Mount; Code_JEDEC: MO-220; ComponentLink1Description: Manufacturer URL; ComponentLink1URL: http://www.ti.com/; ComponentLink2Description: Datasheet; ComponentLink2URL: http://www.ti.com/general/docs/lit/getliterature.tsp?genericPartNumber=ADS7223&fileType=pdf; ComponentLink3Description: Package Specification; ComponentLink3URL: http://www.ti.com/lit/ml/mpqf130c/mpqf130c.pdf
footprint TI-RHB32-3450X3450TP_V (QFN, 32-Leads, Body 5x5mm, Pitch 0.5mm, Thermal Pad 3.45x3.45mm)
pins: 1 CHB1P/CHB3 (in) "Fully-differential noninverting analog input channel B1 or pseudo-differential input B3", 2 CHB1N/CHB2 (in) "Fully-differential inverting analog input channel B1 or pseudo-differential input B2", 3 CHB0P/CHB1 (in) "Fully-differential noninverting analog input channel B0 or pseudo-differential input B1", 4 CHB0N/CHB0 (in) "Fully-differential inverting analog input channel B0 or pseudo-differential input B0", 5 CHA1P/CHA3 (in) "Fully-differential noninverting analog input channel A1 or pseudo-differential input A3", 6 CHA1N/CHA2 (in) "Fully-differential inverting analog input channel A1 or pseudo-differential input A2", 7 CHA0P/CHA1 (in) "Fully-differential nonInverting analog input channel A1 or pseudo-differential input A1", 8 CHA0N/CHA0 (in) "Fully-differential inverting analog input channel A1 or pseudo-differential input A0", 9 REFIO1 (io) "Reference voltage input/output 1. A ceramic capacitor of 22uF connected to RGND is required.", 10 REFIO2 (io) "Reference voltage input/output 2. A ceramic capacitor of 22uF connected to RGND is required.", 11 RGND (power) "Reference ground. Connect to analog ground plane with a dedicated via.", 12 AGND (power) "Analog ground. Connect to analog ground plane.", 13 AVDD (power) "Analog power supply, 2.7V to 5.5V. Decouple to AGND with a 1uF ceramic capacitor.", 14 NC "This pin is not internally connected.", 15 NC "This pin is not internally connected.", 16 M1 (in) "Mode pin 1. Selects the digital output mode (see Table 4).", 17 M0 (in) "Mode pin 0. Selects analog input channel mode (see Table 4).", 18 SDI (in) "Serial data input. This pin is used to set up of the internal registers, and can also be used in ADS8361-compatible manner. The data on SDI are ignored when C\S\is high.", 19 CONVST (in) "Conversion start. The ADC switches from sample into hold mode on the rising edge of CONVST. Thereafter, the conversion starts with the next rising edge of the CLOCK pin.", 20 RD (in) "Read data. Synchronization pulse for the SDOx outputs and SDI input. RD only triggers when C\S\ is low.", 21 ~{CS} (in) "Chip select. When this pin is low, the SDOx, SDI, and RD pins are active; when this pin is high, the SDOx outputs are 3-stated, while the SDI and RD inputs are ignored.", 22 CLOCK (in) "External clock input. The range is 0.5MHz to 20MHz in half-clock mode, or 1MHz to 40MHz in full-clock mode.", 23 BUSY (out) "Converter busy indicator. BUSY goes high when the inputs are in hold mode and returns to low after the conversion is complete.", 24 SDOB (hiz) "Serial data output for converter B. Active only if M1 is low. 3-state when C\S\ is high.", 25 SDOA (hiz) "Serial data output for converter A. 3-state when C\S\ is high.", 26 NC "This pin is not internally connected.", 27 DVDD (power) "Digital supply, 2.3V to 5.5V. Decouple to DGND with a 1uF ceramic capacitor.", 28 DGND (power) "Digital ground. Connect to digital ground plane.", 29 AVDD (power) "Analog power supply, 2.7V to 5.5V. Decouple to AGND with a 1uF ceramic capacitor.", 30 AGND (power) "Analog ground. Connect to analog ground plane.", 31 CMA (in) "Common-mode voltage input for channels Ax (in pseudo-differential mode only).", 32 CMB (in) "Common-mode voltage input for channels Bx (in pseudo-differential mode only).", 33 EP

## ADS7223SRHBR
designator U?
12-Bit 1 MSPS 4 x 2 / 2 x 2 Simultaneous Sampling SAR ADC, -40 to 125 degC, 32-pin QFN (RHB32), Green (RoHS & no Sb/Br); Manufacturer: Texas Instruments; PartNumber: ADS7223SRHBR; # Input Channels: 4; Analog Voltage AV/DD(Max)(V): 5.5; Analog Voltage AV/DD(Min)(V): 2.7; Digital Supply(Min)(V): 2.3; INL(Max)(+/-LSB): 0.5; Interface: Serial; Resolution(Bits): 12; Sample Rate (max)(SPS): 1M; SFDR(dB): 86; SINAD(dB): 72; SNR(dB): 73; SubFamily: Precision ADC (<=10MSPS); DatasheetVersion: SBAS523B; PackageVersion: 4204326/D, 06/2011; PackageReference: RHB32-3450X3450TP; PackageDescription: 32-Pin Plastic Flat Pack, Body 5 x 5 mm, Pitch 0.5 mm; Supplier 1: Digi-Key; Supplier Part Number 1: ADS1217IPFBRG4-ND; Architecture: SAR; Digital Supply(Max)(V): 5.5; Eco-Plan: Green (RoHS & no Sb/Br); Mounting Technology: Surface Mount; Code_JEDEC: MO-220; ComponentLink1Description: Manufacturer URL; ComponentLink1URL: http://www.ti.com/; ComponentLink2Description: Datasheet; ComponentLink2URL: http://www.ti.com/general/docs/lit/getliterature.tsp?genericPartNumber=ADS7223&fileType=pdf; ComponentLink3Description: Package Specification; ComponentLink3URL: http://www.ti.com/lit/ml/mpqf130c/mpqf130c.pdf
footprint TI-RHB32-3450X3450TP_V (QFN, 32-Leads, Body 5x5mm, Pitch 0.5mm, Thermal Pad 3.45x3.45mm)
pins: 1 CHB1P/CHB3 (in) "Fully-differential noninverting analog input channel B1 or pseudo-differential input B3", 2 CHB1N/CHB2 (in) "Fully-differential inverting analog input channel B1 or pseudo-differential input B2", 3 CHB0P/CHB1 (in) "Fully-differential noninverting analog input channel B0 or pseudo-differential input B1", 4 CHB0N/CHB0 (in) "Fully-differential inverting analog input channel B0 or pseudo-differential input B0", 5 CHA1P/CHA3 (in) "Fully-differential noninverting analog input channel A1 or pseudo-differential input A3", 6 CHA1N/CHA2 (in) "Fully-differential inverting analog input channel A1 or pseudo-differential input A2", 7 CHA0P/CHA1 (in) "Fully-differential nonInverting analog input channel A1 or pseudo-differential input A1", 8 CHA0N/CHA0 (in) "Fully-differential inverting analog input channel A1 or pseudo-differential input A0", 9 REFIO1 (io) "Reference voltage input/output 1. A ceramic capacitor of 22uF connected to RGND is required.", 10 REFIO2 (io) "Reference voltage input/output 2. A ceramic capacitor of 22uF connected to RGND is required.", 11 RGND (power) "Reference ground. Connect to analog ground plane with a dedicated via.", 12 AGND (power) "Analog ground. Connect to analog ground plane.", 13 AVDD (power) "Analog power supply, 2.7V to 5.5V. Decouple to AGND with a 1uF ceramic capacitor.", 14 NC "This pin is not internally connected.", 15 NC "This pin is not internally connected.", 16 M1 (in) "Mode pin 1. Selects the digital output mode (see Table 4).", 17 M0 (in) "Mode pin 0. Selects analog input channel mode (see Table 4).", 18 SDI (in) "Serial data input. This pin is used to set up of the internal registers, and can also be used in ADS8361-compatible manner. The data on SDI are ignored when C\S\is high.", 19 CONVST (in) "Conversion start. The ADC switches from sample into hold mode on the rising edge of CONVST. Thereafter, the conversion starts with the next rising edge of the CLOCK pin.", 20 RD (in) "Read data. Synchronization pulse for the SDOx outputs and SDI input. RD only triggers when C\S\ is low.", 21 ~{CS} (in) "Chip select. When this pin is low, the SDOx, SDI, and RD pins are active; when this pin is high, the SDOx outputs are 3-stated, while the SDI and RD inputs are ignored.", 22 CLOCK (in) "External clock input. The range is 0.5MHz to 20MHz in half-clock mode, or 1MHz to 40MHz in full-clock mode.", 23 BUSY (out) "Converter busy indicator. BUSY goes high when the inputs are in hold mode and returns to low after the conversion is complete.", 24 SDOB (hiz) "Serial data output for converter B. Active only if M1 is low. 3-state when C\S\ is high.", 25 SDOA (hiz) "Serial data output for converter A. 3-state when C\S\ is high.", 26 NC "This pin is not internally connected.", 27 DVDD (power) "Digital supply, 2.3V to 5.5V. Decouple to DGND with a 1uF ceramic capacitor.", 28 DGND (power) "Digital ground. Connect to digital ground plane.", 29 AVDD (power) "Analog power supply, 2.7V to 5.5V. Decouple to AGND with a 1uF ceramic capacitor.", 30 AGND (power) "Analog ground. Connect to analog ground plane.", 31 CMA (in) "Common-mode voltage input for channels Ax (in pseudo-differential mode only).", 32 CMB (in) "Common-mode voltage input for channels Bx (in pseudo-differential mode only).", 33 EP

## ADS7263SRHBR
designator U?
14-Bit 1 MSPS 4 x 2 / 2 x 2 Simultaneous Sampling SAR ADC, -40 to 125 degC, 32-pin QFN (RHB32), Green (RoHS & no Sb/Br); Manufacturer: Texas Instruments; PartNumber: ADS7263SRHBR; # Input Channels: 4; Analog Voltage AV/DD(Max)(V): 5.5; Analog Voltage AV/DD(Min)(V): 2.7; Digital Supply(Min)(V): 2.3; INL(Max)(+/-LSB): 1; Interface: Serial; Resolution(Bits): 14; Sample Rate (max)(SPS): 1M; SFDR(dB): 92; SINAD(dB): 84; SNR(dB): 85; SubFamily: Precision ADC (<=10MSPS); DatasheetVersion: SBAS523B; PackageVersion: 4204326/D, 06/2011; PackageReference: RHB32-3450X3450TP; PackageDescription: 32-Pin Plastic Flat Pack, Body 5 x 5 mm, Pitch 0.5 mm; Supplier 1: Digi-Key; Supplier Part Number 1: 296-12967-2-ND; Architecture: SAR; Digital Supply(Max)(V): 5.5; Eco-Plan: Green (RoHS & no Sb/Br); Mounting Technology: Surface Mount; Code_JEDEC: MO-220; ComponentLink1Description: Manufacturer URL; ComponentLink1URL: http://www.ti.com/; ComponentLink2Description: Datasheet; ComponentLink2URL: http://www.ti.com/general/docs/lit/getliterature.tsp?genericPartNumber=ADS7263&fileType=pdf; ComponentLink3Description: Package Specification; ComponentLink3URL: http://www.ti.com/lit/ml/mpqf130c/mpqf130c.pdf
footprint TI-RHB32-3450X3450TP_V (QFN, 32-Leads, Body 5x5mm, Pitch 0.5mm, Thermal Pad 3.45x3.45mm)
pins: 1 CHB1P/CHB3 (in) "Fully-differential noninverting analog input channel B1 or pseudo-differential input B3", 2 CHB1N/CHB2 (in) "Fully-differential inverting analog input channel B1 or pseudo-differential input B2", 3 CHB0P/CHB1 (in) "Fully-differential noninverting analog input channel B0 or pseudo-differential input B1", 4 CHB0N/CHB0 (in) "Fully-differential inverting analog input channel B0 or pseudo-differential input B0", 5 CHA1P/CHA3 (in) "Fully-differential noninverting analog input channel A1 or pseudo-differential input A3", 6 CHA1N/CHA2 (in) "Fully-differential inverting analog input channel A1 or pseudo-differential input A2", 7 CHA0P/CHA1 (in) "Fully-differential nonInverting analog input channel A1 or pseudo-differential input A1", 8 CHA0N/CHA0 (in) "Fully-differential inverting analog input channel A1 or pseudo-differential input A0", 9 REFIO1 (io) "Reference voltage input/output 1. A ceramic capacitor of 22uF connected to RGND is required.", 10 REFIO2 (io) "Reference voltage input/output 2. A ceramic capacitor of 22uF connected to RGND is required.", 11 RGND (power) "Reference ground. Connect to analog ground plane with a dedicated via.", 12 AGND (power) "Analog ground. Connect to analog ground plane.", 13 AVDD (power) "Analog power supply, 2.7V to 5.5V. Decouple to AGND with a 1uF ceramic capacitor.", 14 NC "This pin is not internally connected.", 15 NC "This pin is not internally connected.", 16 M1 (in) "Mode pin 1. Selects the digital output mode (see Table 4).", 17 M0 (in) "Mode pin 0. Selects analog input channel mode (see Table 4).", 18 SDI (in) "Serial data input. This pin is used to set up of the internal registers, and can also be used in ADS8361-compatible manner. The data on SDI are ignored when C\S\is high.", 19 CONVST (in) "Conversion start. The ADC switches from sample into hold mode on the rising edge of CONVST. Thereafter, the conversion starts with the next rising edge of the CLOCK pin.", 20 RD (in) "Read data. Synchronization pulse for the SDOx outputs and SDI input. RD only triggers when C\S\ is low.", 21 ~{CS} (in) "Chip select. When this pin is low, the SDOx, SDI, and RD pins are active; when this pin is high, the SDOx outputs are 3-stated, while the SDI and RD inputs are ignored.", 22 CLOCK (in) "External clock input. The range is 0.5MHz to 20MHz in half-clock mode, or 1MHz to 40MHz in full-clock mode.", 23 BUSY (out) "Converter busy indicator. BUSY goes high when the inputs are in hold mode and returns to low after the conversion is complete.", 24 SDOB (hiz) "Serial data output for converter B. Active only if M1 is low. 3-state when C\S\ is high.", 25 SDOA (hiz) "Serial data output for converter A. 3-state when C\S\ is high.", 26 NC "This pin is not internally connected.", 27 DVDD (power) "Digital supply, 2.3V to 5.5V. Decouple to DGND with a 1uF ceramic capacitor.", 28 DGND (power) "Digital ground. Connect to digital ground plane.", 29 AVDD (power) "Analog power supply, 2.7V to 5.5V. Decouple to AGND with a 1uF ceramic capacitor.", 30 AGND (power) "Analog ground. Connect to analog ground plane.", 31 CMA (in) "Common-mode voltage input for channels Ax (in pseudo-differential mode only).", 32 CMB (in) "Common-mode voltage input for channels Bx (in pseudo-differential mode only).", 33 EP